# EAGLE library part KH-FG0.5-H2.0-30PIN (library FaBo-Connetor)
ER-CON30HT-1 Rev2 wide distance 0.23mm
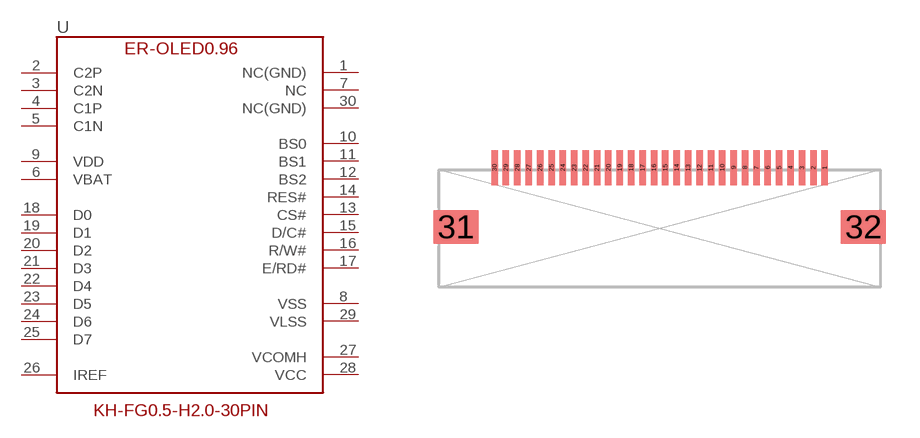
[diagram p27: symbol with the pads of KH-FG0.5-H2.0-30PIN; footprint KH-FG0.5-H2.0-30PIN]

Designator prefix U

## KH-FG0.5-H2.0-30PIN  [KH-FG0.5-H2.0-30PIN]
1  NC(GND)  pwr
2  C2P  in
3  C2N  in
4  C1P  in
5  C1N  in
6  VBAT  pwr
7  NC  nc
8  VSS  pwr
9  VDD  pwr
10  BS0  in
11  BS1  in
12  BS2  in
13  CS#  in
14  RES#  in
15  D/C#  in
16  R/W#  in
17  E/RD#  in
18  D0
19  D1
20  D2
21  D3
22  D4
23  D5
24  D6
25  D7
26  IREF  in
27  VCOMH  out
28  VCC  pwr
29  VLSS  pwr
30  NC(GND)  pwr

## Footprint KH-FG0.5-H2.0-30PIN (pad centres in mm)
smd 0.3 x 1.5: 1 7.25,2.54; 2 6.75,2.54; 3 6.25,2.54; 4 5.75,2.54; 5 5.25,2.54; 6 4.75,2.54; 7 4.25,2.54; 8 3.75,2.54; 9 3.25,2.54; 10 2.75,2.54; 11 2.25,2.54; 12 1.75,2.54; 13 1.25,2.54; 14 0.75,2.54; 15 0.25,2.54; 16 -0.25,2.54; 17 -0.75,2.54; 18 -1.25,2.54; 19 -1.75,2.54; 20 -2.25,2.54; 21 -2.75,2.54; 22 -3.25,2.54; 23 -3.75,2.54; 24 -4.25,2.54; 25 -4.75,2.54; 26 -5.25,2.54; 27 -5.75,2.54; 28 -6.25,2.54; 29 -6.75,2.54; 30 -7.25,2.54
smd 2 x 1.5: 31 -8.95,-0.06; 32 8.95,-0.06